# Altium footprint library attiny84.PcbLib: 1 footprints
Each footprint in its own frame and in the unit in brackets; x right, y up, seen from the top. Pads: shape width x height; smd on the part's side, far side on the other; paste and mask are expansions set on the pad; w line width, h text height; cw(c..) or ccw(c..) is an arc to the next point about the centre after c.
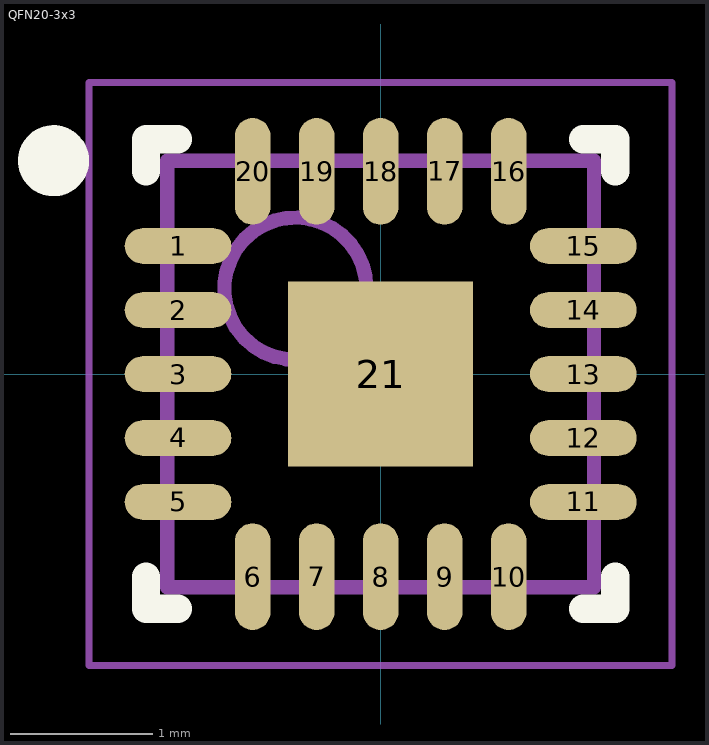
[diagram p0: the footprint, top view; thin cyan lines are the x and y axes]

## QFN20-3x3 [mm] "QFN, 20-Leads, Body 2.95x2.95mm, Pitch 0.45mm, Thermal Pad 1.30x1.30mm, IPC Medium Density"
height 0.85
pads (21):
  oval 0.75x0.25 smd: 1(-1.425,0.9) 2(-1.425,0.45) 3(-1.425,0) 4(-1.425,-0.45) 5(-1.425,-0.9) 11(1.425,-0.9) 12(1.425,-0.45) 13(1.425,0) 14(1.425,0.45) 15(1.425,0.9)
  oval 0.25x0.75 smd: 6(-0.9,-1.425) 7(-0.45,-1.425) 8(0,-1.425) 9(0.45,-1.425) 10(0.9,-1.425) 16(0.9,1.425) 17(0.45,1.425) 18(0,1.425) 19(-0.45,1.425) 20(-0.9,1.425)
  rect 1.3x1.3 smd: 21(0,0)
Top Overlay:
  circle w0.25: c-2.3,1.5 r0.125
  lines w0.2: -1.65,-1.425 -1.65,-1.65 -1.425,-1.65 ; -1.65,1.425 -1.65,1.65 -1.425,1.65 ; 1.425,-1.65 1.65,-1.65 1.65,-1.425 ; 1.425,1.65 1.65,1.65 1.65,1.425
Mechanical 13:
  circle w0.1: c-0.6,0.6 r0.5
  lines w0.1: -1.5,-1.5 1.5,-1.5 1.5,1.5 -1.5,1.5 -1.5,-1.5
Mechanical 15:
  lines w0.05: -2.05,-2.05 2.05,-2.05 2.05,2.05 -2.05,2.05 -2.05,-2.05
  lines w0.1: -0.5,0 0.5,0 ; 0,-0.5 0,0.5
3D body: height 0.85, standoff 0.05, extent -1.5,-1.5 1.5,1.5